# Altium footprint library Seeed-OPL-Connector.PCBLIB: 183 footprints (part 3 of 12)
Each footprint in its own frame and in the unit in brackets; x right, y up, seen from the top. Pads: shape width x height; smd on the part's side, far side on the other; paste and mask are expansions set on the pad; w line width, h text height; cw(c..) or ccw(c..) is an arc to the next point about the centre after c.
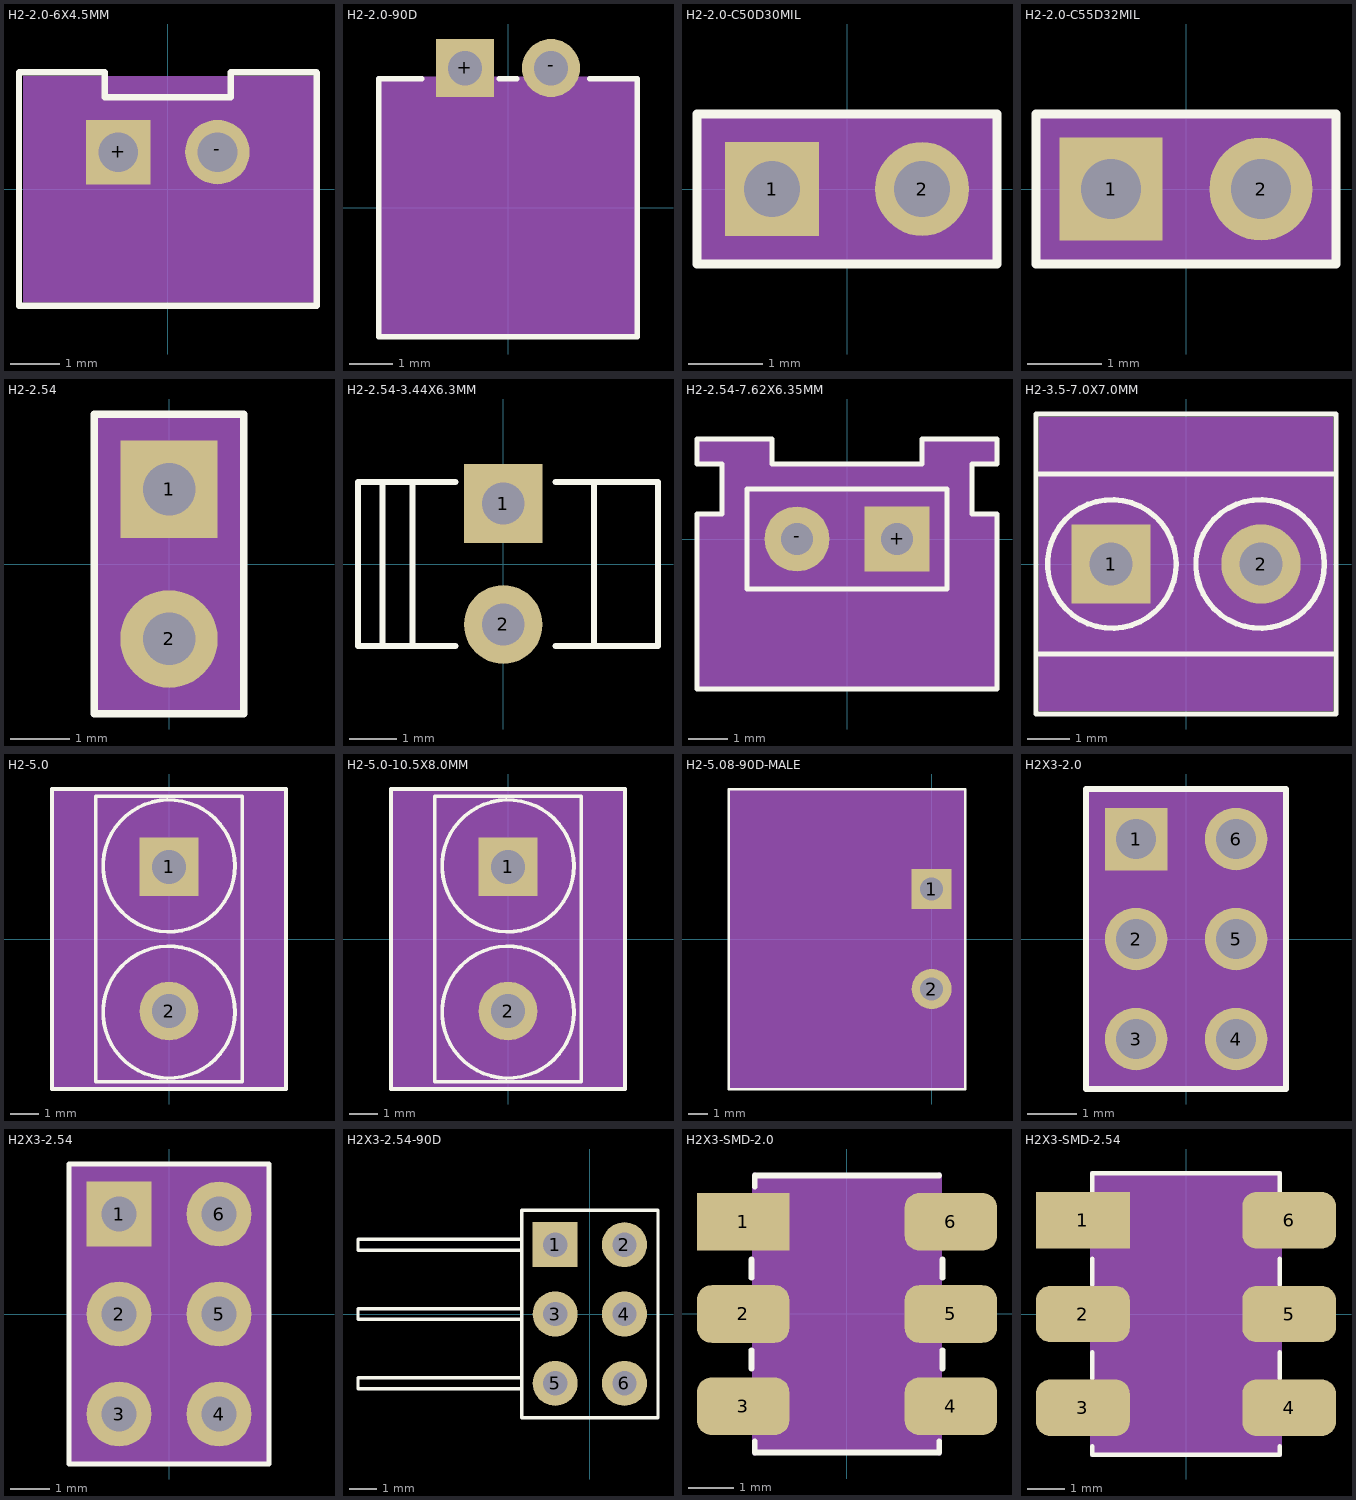
[diagram p2: the footprints below, top view; thin cyan lines are the x and y axes]

## H2-2.0-6X4.5MM [mil]
pads (2):
  rect 51.18x51.18 hole 31.5: +(-39.37,29.53)
  round 51.18 hole 31.5: -(39.37,29.53)
Top Overlay:
  lines w5: -118.11,92.52 -118.11,-92.52 118.11,-92.52 118.11,92.52 ; -118,93 -50,93 -50,73 50,73 50,93 118,93
Mechanical 27:
  region: 120,90 -115,90 -115,-90 120,-90

## H2-2.0-90D [mm]
pads (2):
  rect 1.35x1.35 hole 0.8: +(-1,3.25)
  round 1.35 hole 0.8: -(1,3.25)
Top Overlay:
  lines w0.127: -2,3 -3,3 -3,-3 3,-3 3,3 1.9,3 ; -0.2,3 0.2,3
Mechanical 27:
  rectangle: -3.048,-3.048 3.048,3.048

## H2-2.0-C50D30MIL [mil]
pads (2):
  rect 50x50 hole 30: 1(-40,0)
  round 50 hole 30: 2(40,0)
Top Overlay:
  lines w5: -80,-40 80,-40 80,40 -80,40 -80,-40
Mechanical 27:
  rectangle: -80,-40 80,40

## H2-2.0-C55D32MIL [mil]
pads (2):
  rect 55x55 hole 32: 1(-40,0)
  round 55 hole 32: 2(40,0)
Top Overlay:
  lines w5: -80,-40 80,-40 80,40 -80,40 -80,-40
Mechanical 27:
  rectangle: -80,-40 80,40

## H2-2.54 [mil]
pads (2):
  rect 65x65 hole 35: 1(0,50)
  round 65 hole 35: 2(0,-50)
Top Overlay:
  lines w5: -50,-100 50,-100 50,100 -50,100 -50,-100
Mechanical 27:
  rectangle: -50,-100 50,100
  lines w0: -50,-100 -50,100 50,100 50,-100

## H2-2.54-3.44X6.3MM [mil]
pads (2):
  rect 65x65 hole 35: 1(0,50)
  round 65 hole 35: 2(0,-50)
Top Overlay:
  lines w5: -74.8,-67.72 -39.37,-67.72 ; -74.8,67.72 -39.37,67.72 ; 43.31,-67.72 74.8,-67.72 ; 43.31,67.72 75,67.72 ; -100,-67.72 -120.08,-67.72 -120.08,67.72 -100,67.72 ; -100,-67.72 -75,-67.72 -75,67.72 -100,67.72 ; -100,-67.72 -100,67.72 ; 75,67.72 127.95,67.72 127.95,-67.72 75,-67.72 75,67.72

## H2-2.54-7.62X6.35MM [mil]
pads (2):
  rect 65x65 hole 32: +(50,0)
  round 65 hole 32: -(-50,0)
Top Overlay:
  lines w5: -150,-150 150,-150 150,25 125,25 125,75 150,75 150,100 75,100 75,75 -75,75 -75,100 -150,100 -150,75 -125,75 -125,25 -150,25 -150,-150 ; -100,-50 100,-50 100,50 -100,50 -100,-50
Mechanical 27:
  rectangle: -150,75 -75,100
  rectangle: 75,75 150,100
  rectangle: -125,25 125,75
  rectangle: -150,-150 150,25

## H2-3.5-7.0X7.0MM [mm]
pads (2):
  rect 1.85x1.85 hole 1: 1(-1.75,0)
  round 1.85 hole 1: 2(1.75,0)
Top Overlay:
  circle w0.127: c-1.73,0 r1.5
  circle w0.127: c1.73,0 r1.5
  lines w0.127: -3.5,-2.1 -3.5,-3.5 3.5,-3.5 3.5,-2.1 ; -3.5,-2.1 -3.5,2.1 ; -3.5,-2.1 3.5,-2.1 ; -3.5,2.1 -3.5,3.5 3.5,3.5 3.5,2.1 ; -3.5,2.1 3.5,2.1 ; 3.5,-2.1 3.5,2.1
Mechanical 27:
  rectangle: -3.429,-3.429 3.429,3.429

## H2-5.0 [mil]
pads (2):
  rect 80x80 hole 46: 1(0,98.43)
  round 80 hole 46: 2(0,-98.43)
Top Overlay:
  circle w5: c0,100 r90.14
  circle w5: c0,-100 r90.14
  lines w5: -160,-205 160,-205 160,205 -160,205 -160,-205 ; -100,-195 100,-195 100,195 -100,195 -100,-195
Mechanical 27:
  rectangle: -160,-205 160,205

## H2-5.0-10.5X8.0MM [mil]
pads (2):
  rect 80x80 hole 46: 1(0,98.43)
  round 80 hole 46: 2(0,-98.43)
Top Overlay:
  circle w5: c0,100 r90.14
  circle w5: c0,-100 r90.14
  lines w5: -160,-205 160,-205 160,205 -160,205 -160,-205 ; -100,-195 100,-195 100,195 -100,195 -100,-195
Mechanical 27:
  rectangle: -160,-205 160,205

## H2-5.08-90D-MALE [mil]
pads (2):
  rect 80x80 hole 46: 1(0,100)
  round 80 hole 46: 2(0,-100)
Top Overlay:
  lines w5: -405.51,-300 66.93,-300 66.93,300 -405.51,300 -405.51,-300
Mechanical 27:
  rectangle: -405.51,-300 66.93,300

## H2X3-2.0 [mil]
pads (6):
  rect 50x50 hole 32: 1(-40,80)
  round 50 hole 32: 2(-40,0) 3(-40,-80) 4(40,-80) 5(40,0) 6(40,80)
Top Overlay:
  lines w5: -80,-120 80,-120 80,120 -80,120 -80,-120
Mechanical 27:
  rectangle: -80,-120 80,120

## H2X3-2.54 [mil]
pads (6):
  rect 65x65 hole 35: 1(-50,100)
  round 65 hole 35: 2(-50,0) 3(-50,-100) 4(50,-100) 5(50,0) 6(50,100)
Top Overlay:
  lines w5: -100,-150 100,-150 100,150 -100,150 -100,-150
Mechanical 27:
  rectangle: -100,-150 100,150
  lines w0: -100,-150 100,-150 100,150 -100,150 -100,-150

## H2X3-2.54-90D [mil]
pads (6):
  rect 65x65 hole 35: 1(-50,100)
  round 65 hole 35: 2(50,100) 3(-50,0) 4(50,0) 5(-50,-100) 6(50,-100)
Top Overlay:
  lines w5: -98.43,-107.87 -98.43,-150 98.43,-150 98.43,150 -98.43,150 -98.43,107.87 ; -98.43,-107.87 -98.43,-92.13 ; -98.43,-107.87 -334.65,-107.87 -334.65,-92.13 -98.43,-92.13 ; -98.43,-92.13 -98.43,-7.87 ; -98.43,-7.87 -98.43,7.87 ; -98.43,-7.87 -334.65,-7.87 -334.65,7.87 -98.43,7.87 ; -98.43,7.87 -98.43,92.13 ; -98.43,92.13 -98.43,107.87 ; -98.43,92.13 -334.65,92.13 -334.65,107.87 -98.43,107.87
Mechanical 27:
  lines w0: -98.43,-150 98.43,-150 98.43,150 -98.43,150 -98.43,-150

## H2X3-SMD-2.0 [mil]
pads (6):
  rect 80x50 smd: 1(-90,80)
  rrect50% 80x50 smd: 2(-90,0) 3(-90,-80) 4(90,-80) 5(90,0) 6(90,80)
Top Overlay:
  lines w5: -82.68,31.5 -82.68,47.24 ; -80,-110.24 -80,-120 80,-120 80,-110.24 ; -80,110.24 -80,120 80,120 ; 82.68,-47.24 82.68,-31.5 ; 82.68,31.5 82.68,47.24 ; -82.68,-47.24 -82.68,-31.5 -82.68,-47.24
Mechanical 16:
  lines w5: -80,-120 -80,120 ; 80,-120 80,120
Mechanical 27:
  rectangle: -80,-120 80,120

## H2X3-SMD-2.54 [mil]
pads (6):
  rect 100x60 smd: 1(-110,100)
  rrect50% 100x60 smd: 2(-110,0) 3(-110,-100) 4(110,-100) 5(110,0) 6(110,100)
Top Overlay:
  lines w5: -100,-140.94 -100,-150 100,-150 100,-140.94 ; -100,-68.5 -100,-40.94 ; -100,31.5 -100,59.06 ; -100,131.1 -100,150 100,150 100,131.1 ; 100,-68.5 100,-40.94 ; 100,31.5 100,59.06
Mechanical 16:
  lines w5: -100,-150 -100,150 ; 100,-150 100,150
Mechanical 27:
  rectangle: -100,-150 100,150